# Altium footprint library 691214110002.PcbLib: 1 footprints
Each footprint in its own frame and in the unit in brackets; x right, y up, seen from the top. Pads: shape width x height; smd on the part's side, far side on the other; paste and mask are expansions set on the pad; w line width, h text height; cw(c..) or ccw(c..) is an arc to the next point about the centre after c.
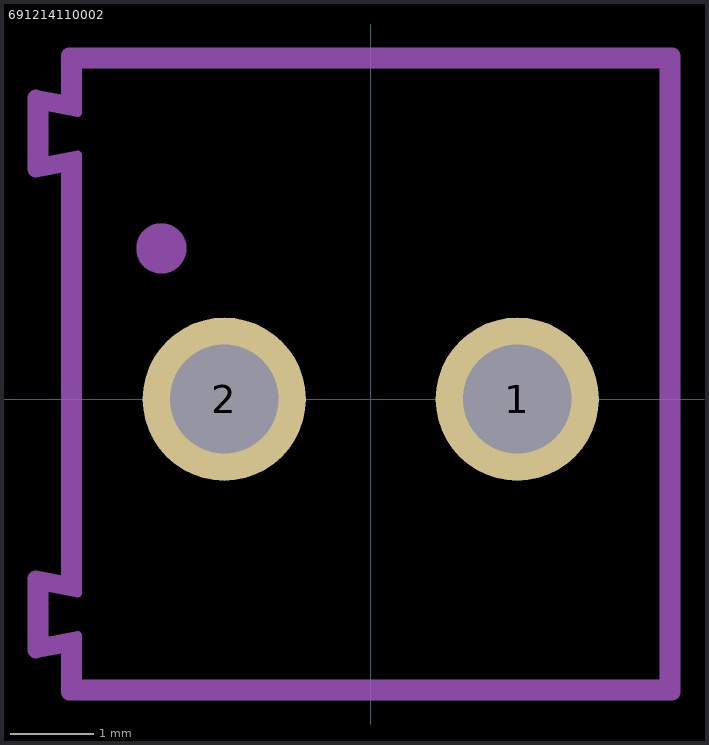
[diagram p0: the footprint, top view; thin cyan lines are the x and y axes]

## 691214110002 [mm]
pads (2):
  round 1.95 hole 1.3: 1(1.75,0) 2(-1.75,0)
Assembly Top:
  circle w0.4: c-2.5,1.8 r0.1
  lines w0.1: -3.9,-2.895 -3.9,-2.245 -3.5,-2.32 -3.5,2.92 -3.9,2.845 -3.9,3.495 -3.5,3.42 -3.5,4 3.5,4 3.5,-3.4 -3.5,-3.4 -3.5,-2.82 -3.9,-2.895
  lines w0.2: -4,-2.995 -3.6,-2.92 -3.6,-3.5 3.6,-3.5 3.6,4.1 -3.6,4.1 -3.6,3.52 -4,3.595 -4,2.745 -3.6,2.82 -3.6,-2.22 -4,-2.145 -4,-2.995
3D body "step_temp.STEP": height 8.5, standoff -3.7, extent -3.9,-3.444 3.5,3.956